# Altium schematic symbol library PAM8610.SchLib: 1 symbol
Pins are listed as number, name and electrical type; pins without a type are passive.

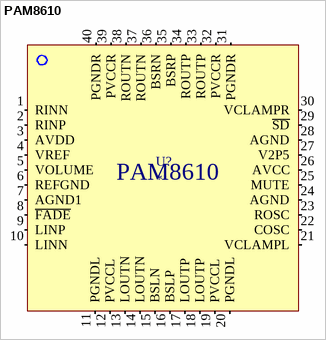
[diagram p0: symbol PAM8610]

## PAM8610
designator U?
10W Stereo Class-D Audio Power Amplifier with DC Volume Control; Manufacturer: Diodes; Manufacturer Part Number: PAM8610TR; Description: IC AMP AUDIO 10W CLASS D 40UQFN; Min Supply Voltage: 7V; Max Supply Voltage: 15V; Power Supply Rejection Ratio (PSRR): 60dB; Supplier 1: Digi-Key; Stock 1: 1422; Pricing 1: 1=2.1, 10=1.883, 100=1.5138, 500=1.2437, 1000=1.0305 (USD); Mount: Surface Mount; Case/Package: QFN; Min Operating Temperature: -20°C; Max Operating Temperature: 85°C; Package Quantity: 2500; Packaging: Tape and Reel; Max Output Power: 10W; Radiation Hardening: No; ComponentLink1URL: https://www.diodes.com/assets/Datasheets/PAM8610.pdf; ComponentLink1Description: https://www.diodes.com/assets/Datasheets/PAM8610.pdf; ComponentLink2URL: http://www.mouser.com/ds/2/115/PAM8610-247304.pdf; ComponentLink2Description: http://www.mouser.com/ds/2/115/PAM8610-247304.pdf; Supplier Part Number 1: PAM8610TRDIDKR-ND
footprint PAM8610 (10W Stereo Class-D Audio Power Amplifier with DC Volume Control)
pins: 1 RINN, 2 RINP, 3 AVDD, 4 VREF, 5 VOLUME, 6 REFGND, 7 AGND1, 8 ~{FADE}, 9 LINP, 10 LINN, 11 PGNDL, 12 PVCCL, 13 LOUTN, 14 LOUTN, 15 BSLN, 16 BSLP, 17 LOUTP, 18 LOUTP, 19 PVCCL, 20 PGNDL, 21 VCLAMPL, 22 COSC, 23 ROSC, 24 AGND, 25 MUTE, 26 AVCC, 27 V2P5, 28 AGND, 29 ~{SD}, 30 VCLAMPR, 31 PGNDR, 32 PVCCR, 33 ROUTP, 34 ROUTP, 35 BSRP, 36 BSRN, 37 ROUTN, 38 ROUTN, 39 PVCCR, 40 PGNDR